# Altium schematic symbol library ADC0820CCN&plus_.SchLib: 2 symbols
Pins are listed as number, name and electrical type; pins without a type are passive.

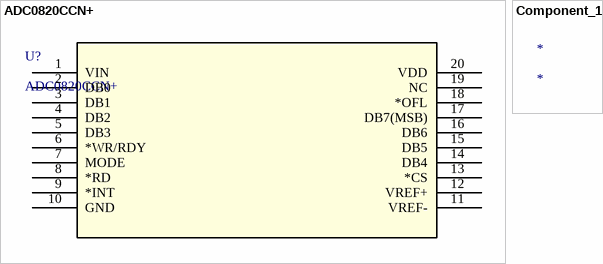
[diagram p0: symbols ADC0820CCN+ to Component_1]

## ADC0820CCN+
designator U?
No Description Available; Mfr_Name: Analog Devices Inc; Copyright: Copyright (C) 2023 Ultra Librarian. All rights reserved.; Manufacturer_Part_Number: ADC0820CCN+; RefDes: RefDes; Type: DEV
footprint 21-0043D_20_MXM
pins: 1 VIN, 2 DB0, 3 DB1, 4 DB2, 5 DB3, 6 *WR/RDY, 7 MODE, 8 *RD, 9 *INT, 10 GND (power), 11 VREF-, 12 VREF+, 13 *CS, 14 DB4, 15 DB5, 16 DB6, 17 DB7(MSB), 18 *OFL, 19 NC, 20 VDD (power)

## Component_1
designator *